# Altium footprint library SAMTEC_TS-102-G-A-1.PcbLib: 1 footprints
Each footprint in its own frame and in the unit in brackets; x right, y up, seen from the top. Pads: shape width x height; smd on the part's side, far side on the other; paste and mask are expansions set on the pad; w line width, h text height; cw(c..) or ccw(c..) is an arc to the next point about the centre after c.
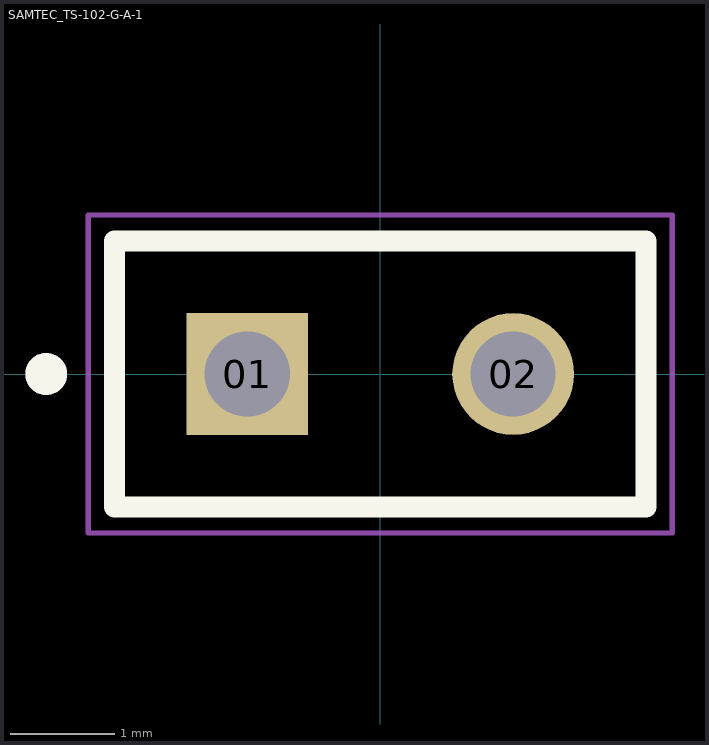
[diagram p0: the footprint, top view; thin cyan lines are the x and y axes]

## SAMTEC_TS-102-G-A-1 [mil]
pads (2):
  rect 45.78x45.78 / inner round 45.78 / far side rect 45.78x45.78 hole 32: 01(-50,0)
  round 45.78 hole 32: 02(50,0)
Top Overlay:
  circle w7.87: c-125.59,0 r3.94
  lines w7.87: -100,-50 -100,50 100,50 100,-50 -100,-50
Mechanical 13:
  circle w7.87: c-125.59,0 r3.94
  lines w3.94: -100,-50 -100,50 ; -100,-50 100,-50 ; -100,-50 -100,50 ; -100,50 100,50 ; -100,50 100,50 ; 100,-50 100,50 ; 100,-50 100,50
Mechanical 15:
  lines w1.97: -109.84,-59.84 -109.84,59.84 109.84,59.84 109.84,-59.84 -109.84,-59.84
3D body "PTH-2.STEP": height 414.96, standoff -118.11, extent -100,-49.21 100.2,49.21